# Altium footprint library jack_p2.PcbLib: 1 footprints
Each footprint in its own frame and in the unit in brackets; x right, y up, seen from the top. Pads: shape width x height; smd on the part's side, far side on the other; paste and mask are expansions set on the pad; w line width, h text height; cw(c..) or ccw(c..) is an arc to the next point about the centre after c.
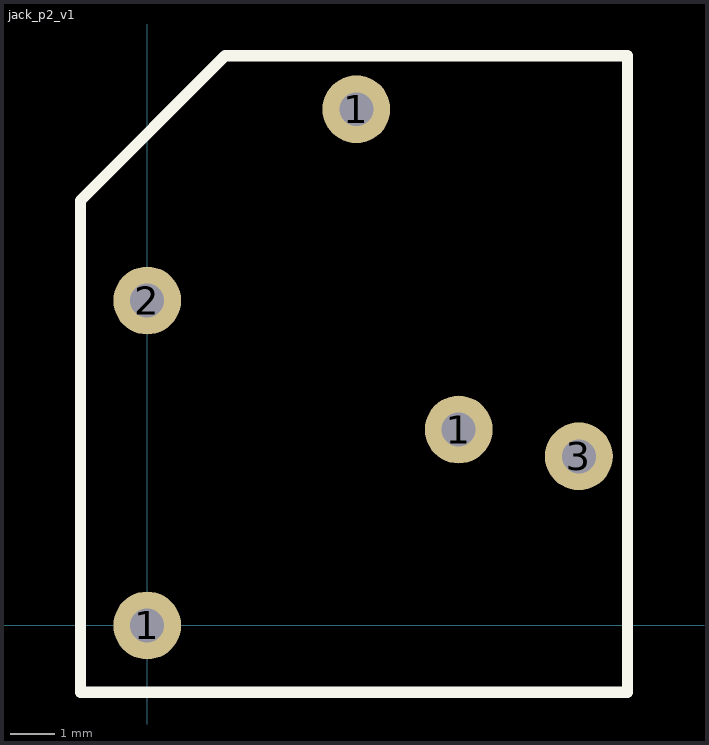
[diagram p0: the footprint, top view; thin cyan lines are the x and y axes]

## jack_p2_v1 [mil]
pads (5):
  round 60 hole 30: 1(0,0) 1(185.04,456.69) 1(275.59,173.23) 2(0,287.4) 3(381.89,149.61)
Top Overlay:
  lines w10: -59.06,-59.06 -59.06,375.94 68.94,503.94 425,503.94 425,-59.06 -59.06,-59.06